# EAGLE library part DMS3016SSS-13 (library Diodes_Inc_By_element14_Batch_1)
ENHANCEMENT MODE MOSFET
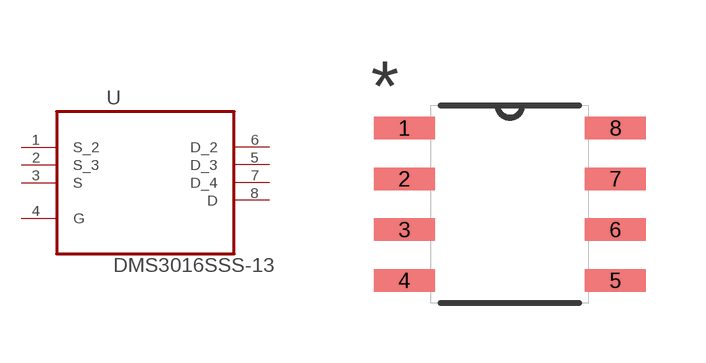
[diagram p27: symbol with the pads of SOIC127P600X175-8N; footprint SOIC127P600X175-8N]

Designator prefix U

## DMS3016SSS-13 (MPN: DMS3016SSS-13; OC_FARNELL: 1863729; OC_NEWARK: 27T2704; PACKAGE: SOIC-8; SUPPLIER: DIODES INC.)  [SOIC127P600X175-8N]
1  S_2  pas
2  S_3  pas
3  S  pas
4  G  pas
5  D_3  pas
6  D_2  pas
7  D_4  pas
8  D  pas

## Footprint SOIC127P600X175-8N (pad centres in mm)
smd 1.524 x 0.559: 1 -2.642,1.905; 2 -2.642,0.635; 3 -2.642,-0.635; 4 -2.642,-1.905; 5 2.642,-1.905; 6 2.642,-0.635; 7 2.642,0.635; 8 2.642,1.905